# Altium schematic symbol library schlib.SchLib: 5 symbols
Pins are listed as number, name and electrical type; pins without a type are passive.

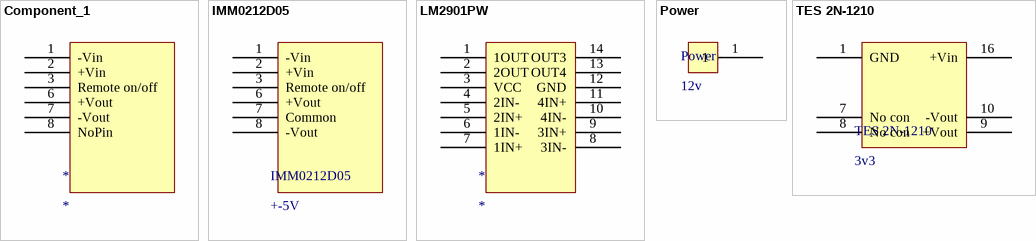
[diagram p0: symbols Component_1 to TES 2N-1210]

## Component_1
designator *
footprint SIP8
pins: 1 -Vin, 2 +Vin, 3 Remote on/off, 6 +Vout, 7 -Vout, 8 NoPin

## IMM0212D05
designator IMM0212D05, comment +-5V
footprint SIP8 (+-5V)
pins: 1 -Vin, 2 +Vin, 3 Remote on/off, 6 +Vout, 7 Common, 8 -Vout

## LM2901PW
designator *
pins: 1 1OUT, 2 2OUT, 3 VCC, 4 2IN-, 5 2IN+, 6 1IN-, 7 1IN+, 8 3IN-, 9 3IN+, 10 4IN-, 11 4IN+, 12 GND, 13 OUT4, 14 OUT3

## Power
designator Power, comment 12v
footprint RA (Power socket)
pins: 1

## TES 2N-1210
designator TES 2N-1210, comment 3v3
footprint TES 2N-1210
pins: 1 GND, 7 No con, 8 No con, 9 +Vout, 10 -Vout, 16 +Vin